# EAGLE library part L298 (library andereBauteile)
L298 2 Kanal Motortreiber bis 2 A pro Kanal max. Spannung 46 V
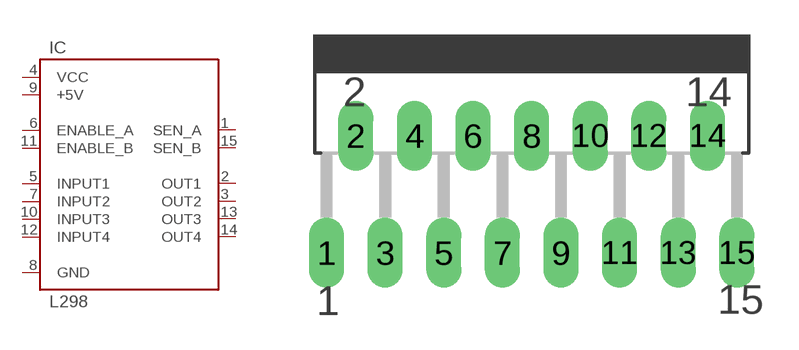
[diagram p13: symbol with the pads of MULTIWATT-15; footprint MULTIWATT-15]

Designator prefix IC

## L298  [MULTIWATT-15]
1  SEN_A  in
2  OUT1  out
3  OUT2  out
4  VCC  pwr
5  INPUT1  in
6  ENABLE_A  in
7  INPUT2  in
8  GND  pwr
9  +5V  pwr
10  INPUT3  in
11  ENABLE_B  in
12  INPUT4  in
13  OUT3  out
14  OUT4  out
15  SEN_B  in

## Footprint MULTIWATT-15 (pad centres in mm)
drill 1.016 long: 1 -8.89,-2.54; 2 -7.62,2.54; 3 -6.35,-2.54; 4 -5.08,2.54; 5 -3.81,-2.54; 6 -2.54,2.54; 7 -1.27,-2.54; 8 0,2.54; 9 1.27,-2.54; 10 2.54,2.54; 11 3.81,-2.54; 12 5.08,2.54; 13 6.35,-2.54; 14 7.62,2.54; 15 8.89,-2.54